# EAGLE library part LTC3588 (library James_custom)
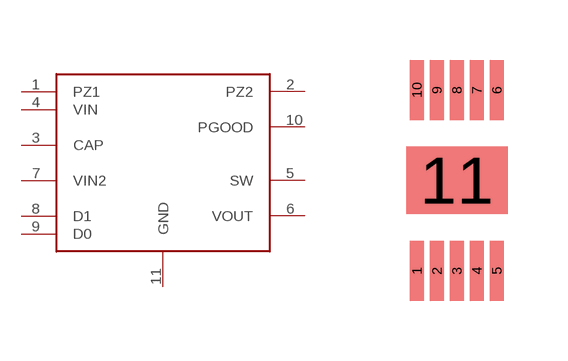
[diagram p5: symbol with the pads of EMSOP10; footprint EMSOP10]

Designator prefix -

## LTC3588  [EMSOP10]
1  PZ1
2  PZ2
3  CAP
4  VIN
5  SW
6  VOUT
7  VIN2
8  D1
9  D0
10  PGOOD
11  GND

## Footprint EMSOP10 (pad centres in mm)
smd 0.35 x 1.5: 1 -1,-2.263; 2 -0.5,-2.263; 3 0,-2.263; 4 0.5,-2.263; 5 1,-2.263; 6 1,2.262; 7 0.5,2.262; 8 0,2.262; 9 -0.5,2.262; 10 -1,2.262
smd 2.54 x 1.68: 11 -0.004,0.001